# EAGLE library part PIC12F629 (library 000001)
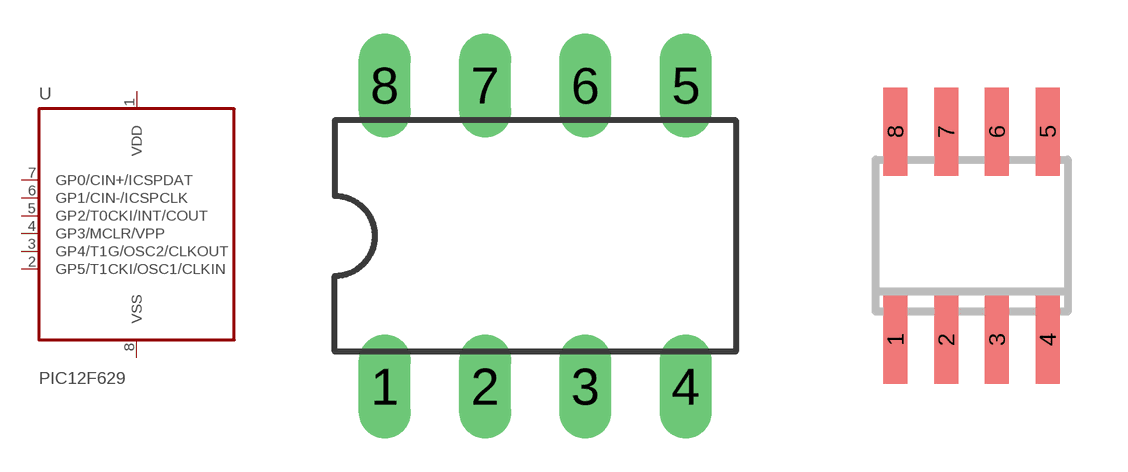
[diagram p48: symbol with the pads of DIL08; footprints DIL08, SO08]

Designator prefix -

## PIC12F629  [DIL08]
1  VDD  pwr
2  GP5/T1CKI/OSC1/CLKIN
3  GP4/T1G/OSC2/CLKOUT
4  GP3/MCLR/VPP
5  GP2/T0CKI/INT/COUT
6  GP1/CIN-/ICSPCLK
7  GP0/CIN+/ICSPDAT
8  VSS  pwr

## PIC12F629S  [SO08]
Pads as for DIL08

## PIC12F629PCB  [DIL8_PCB]
Pads as for DIL08

## Footprint DIL08 (pad centres in mm)
Dual In Line Package
drill 0.813 long: 1 -3.81,-3.81; 2 -1.27,-3.81; 3 1.27,-3.81; 4 3.81,-3.81; 5 3.81,3.81; 6 1.27,3.81; 7 -1.27,3.81; 8 -3.81,3.81

## Footprint SO08 (pad centres in mm)
Small Outline Package 8 NS Package M08A
smd 0.6 x 2.2: 1 -1.905,-2.6; 2 -0.635,-2.6; 3 0.635,-2.6; 4 1.905,-2.6; 5 1.905,2.6; 6 0.635,2.6; 7 -0.635,2.6; 8 -1.905,2.6

## Footprint DIL8_PCB (pad centres in mm)
drill 0.7 pad 1.575 octagon: 1 -3.81,-3.81
drill 0.7 pad 1.575 round: 2 -1.27,-3.81; 3 1.27,-3.81; 4 3.81,-3.81; 5 3.81,3.81; 6 1.27,3.81; 7 -1.27,3.81; 8 -3.81,3.81